# EAGLE library part DX07-USB-C (library MTM_untested)
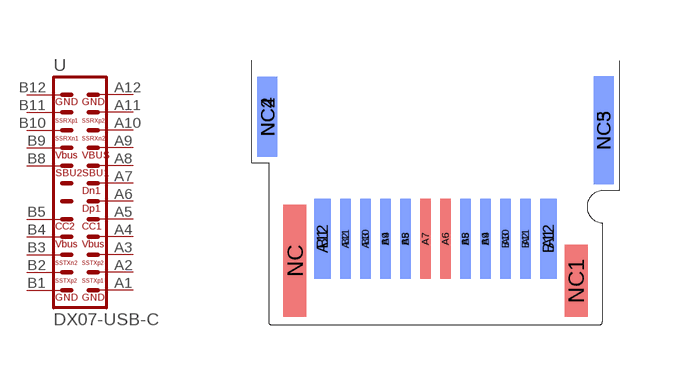
[diagram p4: symbol with the pads of DX07P024MJ1_USBC_PLUG; footprint DX07P024MJ1_USBC_PLUG]

Designator prefix -

## DX07-USB-C  [DX07P024MJ1_USBC_PLUG]
A1  1  pas
A2  3  pas
A3  5  pas
A4  7  pas
A5  9  pas
A6  11  pas
A7  13  pas
A8  15  pas
A9  17  pas
A10  19  pas
A11  21  pas
A12  23  pas
B1  2  pas
B2  4  pas
B3  6  pas
B4  8  pas
B5  10  pas
B8  16  pas
B9  18  pas
B10  20  pas
B11  22  pas
B12  24  pas

## Footprint DX07P024MJ1_USBC_PLUG (pad centres in mm)
smd 0.41 x 2: A1 2.825,2.15; A12 -2.825,2.15
smd 0.26 x 2: A2 2.25,2.15; A3 1.75,2.15; A4 1.25,2.15; A5 0.75,2.15; A6 0.25,2.15; A7 -0.25,2.15; A8 -0.75,2.15; A9 -1.25,2.15; A10 -1.75,2.15; A11 -2.25,2.15
smd 0.41 x 2 bottom: B1 -2.825,2.15; B12 2.825,2.15
smd 0.26 x 2 bottom: B2 -2.25,2.15; B3 -1.75,2.15; B4 -1.25,2.15; B5 -0.75,2.15; B8 0.75,2.15; B9 1.25,2.15; B10 1.75,2.15; B11 2.25,2.15
smd 0.575 x 2.8: NC -3.513,1.6
smd 0.575 x 1.8: NC1 3.513,1.1
smd 0.5 x 2: NC2 -4.2,5.2
smd 0.5 x 2.7: NC3 4.2,4.86
smd 0.5 x 2 bottom: NC4 -4.2,5.2
smd 0.5 x 2.7 bottom: NC5 4.2,4.86